# Altium footprint library charger.PcbLib: 3 footprints
Each footprint in its own frame and in the unit in brackets; x right, y up, seen from the top. Pads: shape width x height; smd on the part's side, far side on the other; paste and mask are expansions set on the pad; w line width, h text height; cw(c..) or ccw(c..) is an arc to the next point about the centre after c.
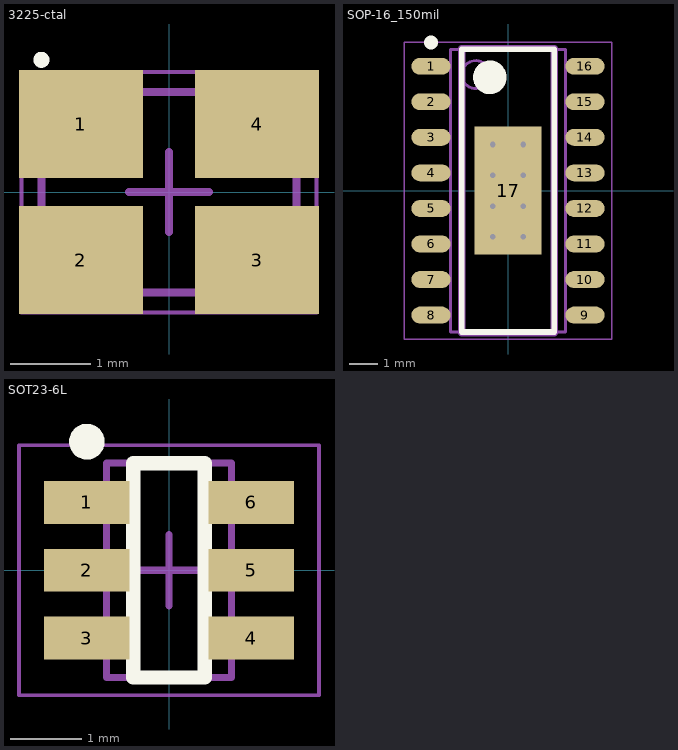
[diagram p0: the footprints below, top view; thin cyan lines are the x and y axes]

## 3225-ctal [mm] "DFN, 4-Leads, Body 2,50x3,20mm, Pitch 2,20mm, IPC Medium Density"
height 0.7
pads (4):
  rect 1.55x1.35 smd: 1(-1.1,0.85) 2(-1.1,-0.85) 3(1.1,-0.85) 4(1.1,0.85)
Top Overlay:
  circle w0.1: c-1.595,1.655 r0.05
Mechanical 13:
  lines w0.1: -1.595,-1.255 -1.595,1.255 1.595,1.255 1.595,-1.255 -1.595,-1.255
Mechanical 15:
  lines w0.05: -1.845,-1.505 -1.845,1.505 1.845,1.505 1.845,-1.505 -1.845,-1.505
  lines w0.1: -0.5,0 0.5,0 ; 0,-0.5 0,0.5
3D body: height 0.7, standoff 0, extent -1.595,-1.255 1.595,1.255

## SOP-16_150mil [mm] "SOP, 16-Leads, Body 9,90x3,90mm, Pitch 1,27mm, Thermal Pad 4,57x2,41mm, IPC Medium Density"
height 1.75
pads (17):
  oval 1.4x0.6 smd: 1(-2.75,4.445) 2(-2.75,3.175) 3(-2.75,1.905) 4(-2.75,0.635) 5(-2.75,-0.635) 6(-2.75,-1.905) 7(-2.75,-3.175) 8(-2.75,-4.445) 9(2.75,-4.445) 10(2.75,-3.175) 11(2.75,-1.905) 12(2.75,-0.635) 13(2.75,0.635) 14(2.75,1.905) 15(2.75,3.175) 16(2.75,4.445)
  rect 2.41x4.57 smd: 17(0,0)
via 0.55,-1.65 diameter 0.5 hole 0.2
via -0.55,-1.65 diameter 0.5 hole 0.2
via 0.55,-0.55 diameter 0.5 hole 0.2
via -0.55,-0.55 diameter 0.5 hole 0.2
via 0.55,0.55 diameter 0.5 hole 0.2
via -0.55,0.55 diameter 0.5 hole 0.2
via 0.55,1.65 diameter 0.5 hole 0.2
via -0.55,1.65 diameter 0.5 hole 0.2
Top Overlay:
  circle w0.6: c-0.65,4.05 r0.3
  circle w0.25: c-2.75,5.295 r0.125
  lines w0.2: -1.65,-5.05 1.65,-5.05 1.65,5.05 -1.65,5.05 -1.65,-5.05
Mechanical 13:
  circle w0.1: c-1.15,4.15 r0.5
  lines w0.1: -2.05,-5.05 2.05,-5.05 2.05,5.05 -2.05,5.05 -2.05,-5.05
Mechanical 15:
  lines w0.05: -3.7,-5.3 3.7,-5.3 3.7,5.3 -3.7,5.3 -3.7,-5.3
  lines w0.1: -0.5,0 0.5,0 ; 0,-0.5 0,0.5
Mechanical 29:
  circle w0.254: c-0.635,4.064 r0.127
  lines w0.254: -1.651,-5.08 1.651,-5.08 1.651,5.08 -1.651,5.08 -1.651,-5.08
  text "'.Designator'" at -0.302,3.964 h0.7
3D body "SOP-16_150mil.step": height 1.75, standoff 0, extent -3,-5.05 3,5.05

## SOT23-6L [mm] "SOT23, 6-Leads, Body 2,90x2,80mm, Pitch 0,95mm, IPC Medium Density"
height 1.45
pads (6):
  rect 1.2x0.6 smd: 1(-1.15,0.95) 2(-1.15,0) 3(-1.15,-0.95) 4(1.15,-0.95) 5(1.15,0) 6(1.15,0.95)
Top Overlay:
  circle w0.25: c-1.15,1.8 r0.125
  lines w0.2: -0.5,-1.5 -0.5,1.5 0.5,1.5 0.5,-1.5 -0.5,-1.5
Mechanical 13:
  lines w0.1: -0.875,-1.5 0.875,-1.5 0.875,1.5 -0.875,1.5 -0.875,-1.5
Mechanical 15:
  lines w0.05: -2.1,-1.75 2.1,-1.75 2.1,1.75 -2.1,1.75 -2.1,-1.75
  lines w0.1: -0.5,0 0.5,0 ; 0,-0.5 0,0.5
3D body: height 1.45, standoff 0.1, extent -0.875,-1.5 0.875,1.5